# EAGLE library part TAS5630BPHD (library Audio-Power-amlifier V.2.0)
300W STEREO / 600W MONO PurePath ? HD ANALOG-INPUT POWER STAGE CW07/2009
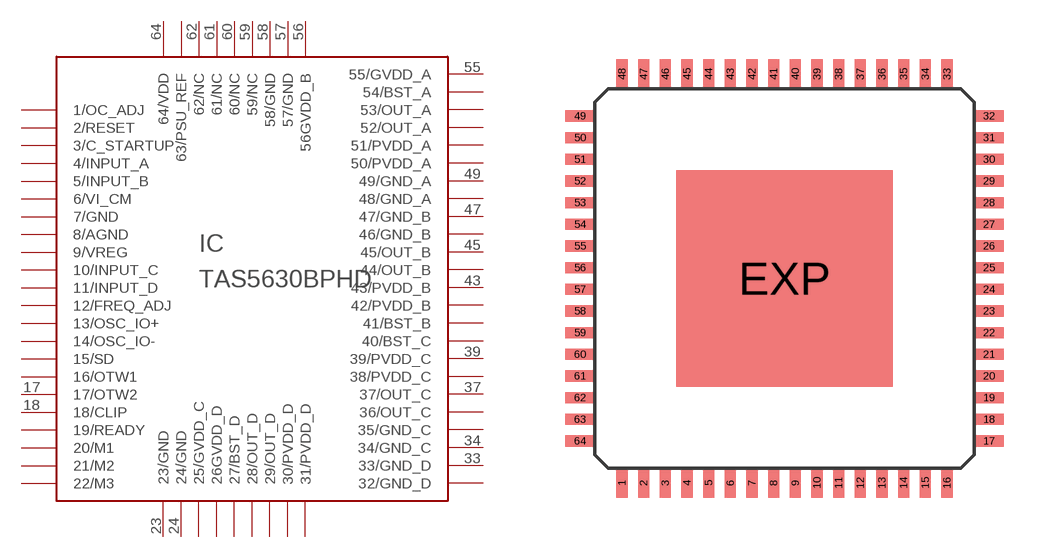
[diagram p104: symbol with the pads of PQFP64-PHD; footprint PQFP64-PHD]

Designator prefix IC

## TAS5630BPHDTAS5630BPHD  [PQFP64-PHD]
1  1/OC_ADJ
2  2/RESET  in
3  3/C_STARTUP
4  4/INPUT_A  in
5  5/INPUT_B  in
6  6/VI_CM
7  7/GND  pwr
8  8/AGND  pwr
9  9/VREG
10  10/INPUT_C  in
11  11/INPUT_D  in
12  12/FREQ_ADJ
13  13/OSC_IO+
14  14/OSC_IO-
15  15/SD  out
16  16/OTW1  out
17  17/OTW2
18  18/CLIP
19  19/READY
20  20/M1
21  21/M2
22  22/M3
23  23/GND  pwr
24  24/GND  pwr
25  25/GVDD_C
26  26GVDD_D
27  27/BST_D
28  28/OUT_D
29  29/OUT_D
30  30/PVDD_D
31  31/PVDD_D
32  32/GND_D  pwr
33  33/GND_D  pwr
34  34/GND_C  pwr
35  35/GND_C  pwr
36  36/OUT_C  out
37  37/OUT_C  out
38  38/PVDD_C
39  39/PVDD_C
40  40/BST_C
41  41/BST_B
42  42/PVDD_B
43  43/PVDD_B
44  44/OUT_B  out
45  45/OUT_B  out
46  46/GND_B  pwr
47  47/GND_B  pwr
48  48/GND_A  pwr
49  49/GND_A  pwr
50  50/PVDD_A
51  51/PVDD_A
52  52/OUT_A  out
53  53/OUT_A  out
54  54/BST_A
55  55/GVDD_A
56  56GVDD_B
57  57/GND  pwr
58  58/GND  pwr
59  59/NC  nc
60  60/NC  nc
61  61/NC  nc
62  62/NC  nc
63  63/PSU_REF
64  64/VDD  pwr

## Footprint PQFP64-PHD (pad centres in mm)
64-Pin QFP (PHD) power package
smd 0.41 x 1.1: 1 -6,-7.55; 2 -5.2,-7.55; 3 -4.4,-7.55; 4 -3.6,-7.55; 5 -2.8,-7.55; 6 -2,-7.55; 7 -1.2,-7.55; 8 -0.4,-7.55; 9 0.4,-7.55; 10 1.2,-7.55; 11 2,-7.55; 12 2.8,-7.55; 13 3.6,-7.55; 14 4.4,-7.55; 15 5.2,-7.55; 16 6,-7.55; 33 6,7.55; 34 5.2,7.55; 35 4.4,7.55; 36 3.6,7.55; 37 2.8,7.55; 38 2,7.55; 39 1.2,7.55; 40 0.4,7.55; 41 -0.4,7.55; 42 -1.2,7.55; 43 -2,7.55; 44 -2.8,7.55; 45 -3.6,7.55; 46 -4.4,7.55; 47 -5.2,7.55; 48 -6,7.55
smd 1.1 x 0.41: 17 7.55,-6; 18 7.55,-5.2; 19 7.55,-4.4; 20 7.55,-3.6; 21 7.55,-2.8; 22 7.55,-2; 23 7.55,-1.2; 24 7.55,-0.4; 25 7.55,0.4; 26 7.55,1.2; 27 7.55,2; 28 7.55,2.8; 29 7.55,3.6; 30 7.55,4.4; 31 7.55,5.2; 32 7.55,6; 49 -7.55,6; 50 -7.55,5.2; 51 -7.55,4.4; 52 -7.55,3.6; 53 -7.55,2.8; 54 -7.55,2; 55 -7.55,1.2; 56 -7.55,0.4; 57 -7.55,-0.4; 58 -7.55,-1.2; 59 -7.55,-2; 60 -7.55,-2.8; 61 -7.55,-3.6; 62 -7.55,-4.4; 63 -7.55,-5.2; 64 -7.55,-6
smd 8 x 8: EXP 0,0